# EAGLE library part JPQ-06S- (library jumpers)
Jumper Block
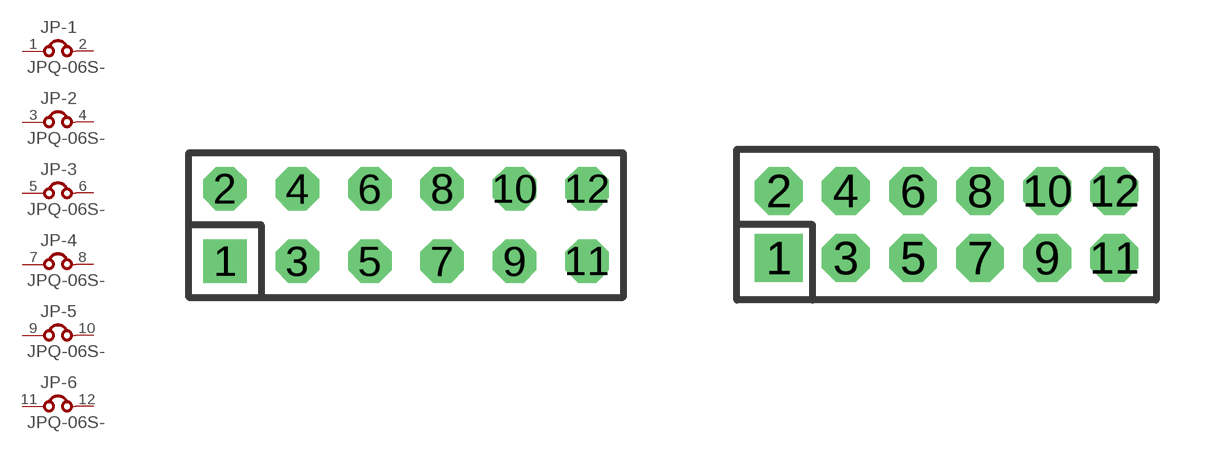
[diagram p3: symbol with the pads of JPQ-06; footprints JPQ-06, JPQ-06M]

Designator prefix JP; gates -1=J -2=J -3=J -4=J -5=J -6=J

## JPQ-06S-100  [JPQ-06]
1  -1:1  pas
2  -1:2  pas
3  -2:1  pas
4  -2:2  pas
5  -3:1  pas
6  -3:2  pas
7  -4:1  pas
8  -4:2  pas
9  -5:1  pas
10  -5:2  pas
11  -6:1  pas
12  -6:2  pas

## JPQ-06S-2MM  [JPQ-06M]
Pads as for JPQ-06

## JPQ-06S-GXC06  [GXC06]
Pads as for JPQ-06

## Footprint JPQ-06 (pad centres in mm)
JUMPER - 0.1" Pitch
drill 1.016 square: 1 -6.35,-1.27
drill 1.016 octagon: 2 -6.35,1.27; 3 -3.81,-1.27; 4 -3.81,1.27; 5 -1.27,-1.27; 6 -1.27,1.27; 7 1.27,-1.27; 8 1.27,1.27; 9 3.81,-1.27; 10 3.81,1.27; 11 6.35,-1.27; 12 6.35,1.27

## Footprint JPQ-06M (pad centres in mm)
JUMPER - 2.00mm (.079") Pitch
drill 0.914 square: 1 -5,-1
drill 0.914 octagon: 2 -5,1; 3 -3,-1; 4 -3,1; 5 -1,-1; 6 -1,1; 7 1,-1; 8 1,1; 9 3,-1; 10 3,1; 11 5,-1; 12 5,1

## Footprint GXC06 (pad centres in mm)
SMD HEADER - 0.1", Vertical
smd 1.27 x 5.08: 1 -6.35,-3.175; 2 -6.35,3.175; 3 -3.81,-3.175; 4 -3.81,3.175; 5 -1.27,-3.175; 6 -1.27,3.175; 7 1.27,-3.175; 8 1.27,3.175; 9 3.81,-3.175; 10 3.81,3.175; 11 6.35,-3.175; 12 6.35,3.175